# Altium schematic symbol library IND,1uH,180mA,Wirewound,0402.Schlib: 1 symbol
Pins are listed as number, name and electrical type; pins without a type are passive.

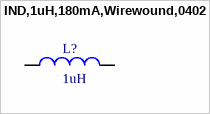
[diagram p0: symbol IND,1uH,180mA,Wirewound,0402]

## IND,1uH,180mA,Wirewound,0402
designator L?, comment 1uH
1 µH Unshielded Drum Core, Wirewound Inductor 180 mA 2.2Ohm Max 0402 (1005 Metric)
pins: 1, 2